# Altium footprint library B6-1-2.PcbLib: 23 footprints (part 1 of 2)
Each footprint in its own frame and in the unit in brackets; x right, y up, seen from the top. Pads: shape width x height; smd on the part's side, far side on the other; paste and mask are expansions set on the pad; w line width, h text height; cw(c..) or ccw(c..) is an arc to the next point about the centre after c.
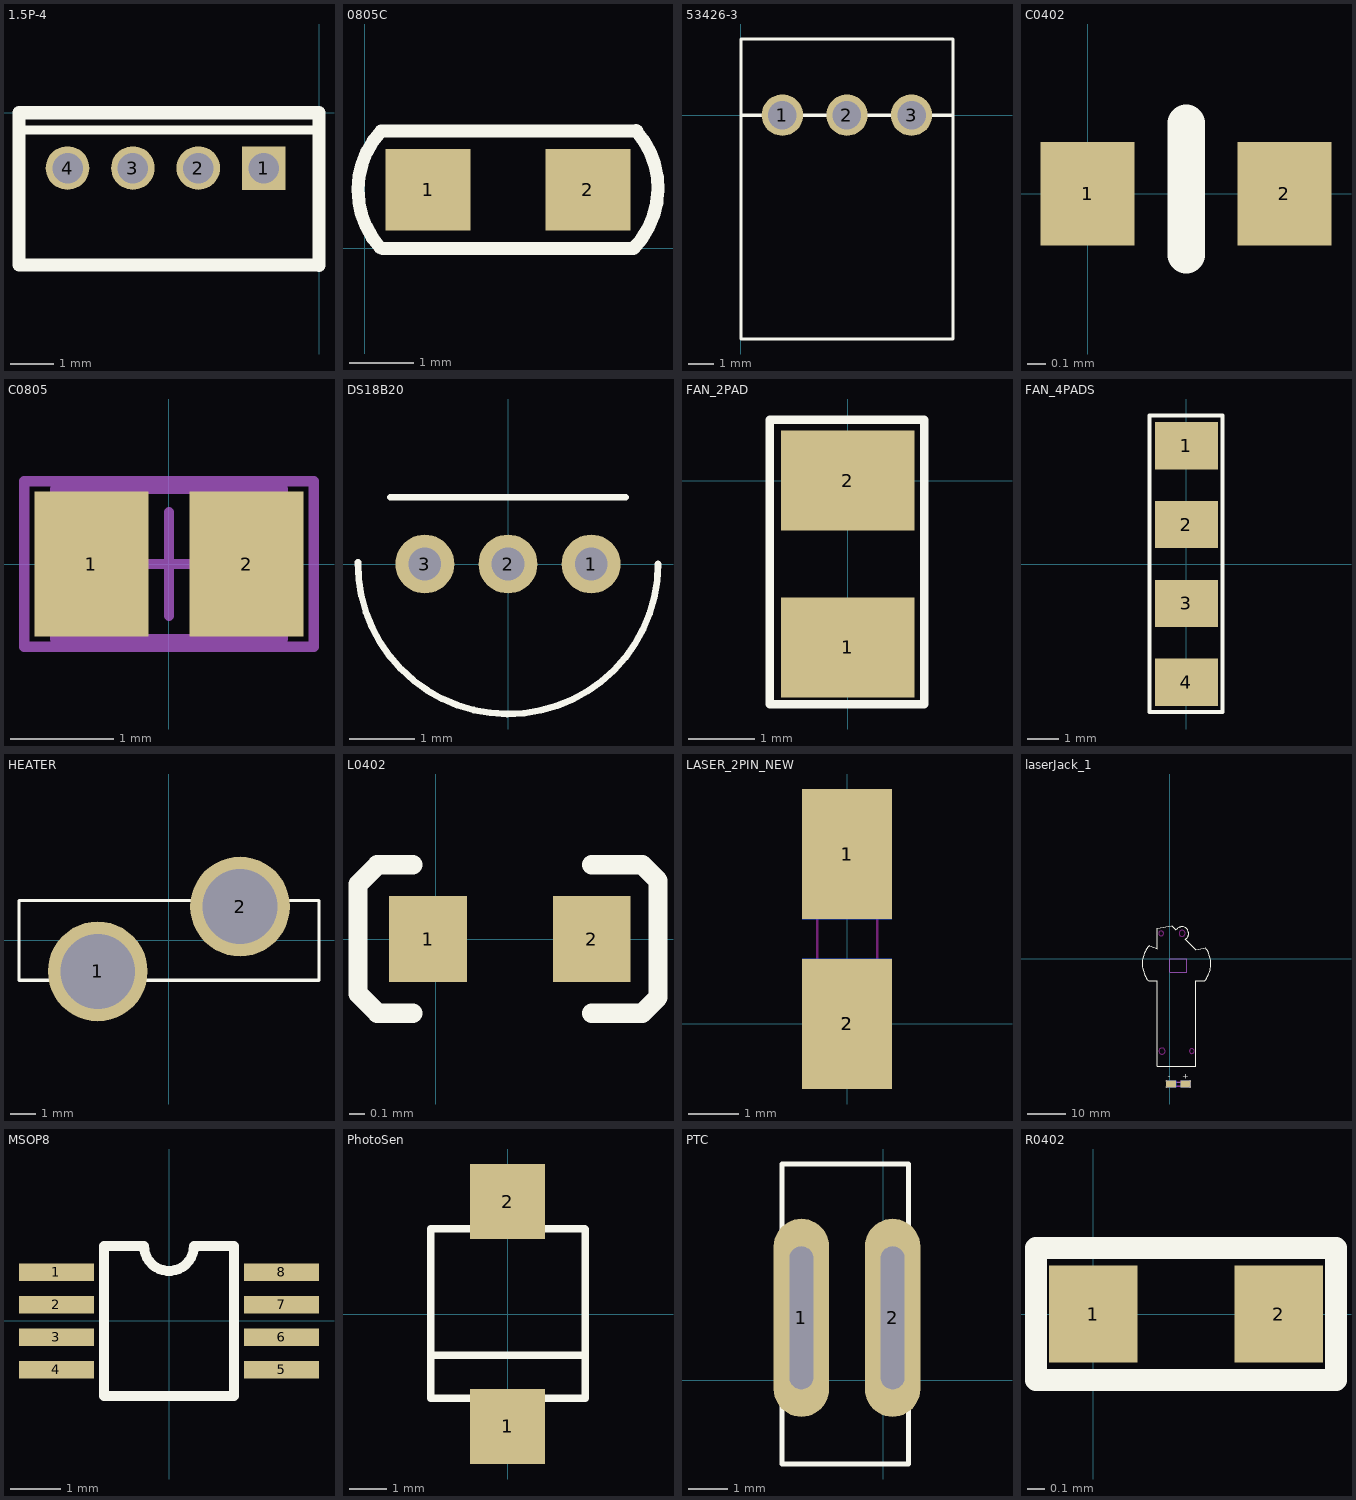
[diagram p0: the footprints below, top view; thin cyan lines are the x and y axes]

## 1.5P-4 [mm]
height 2.54
pads (4):
  rect 1x1 hole 0.7: 1(-1.27,-1.27)
  round 1 hole 0.7: 2(-2.77,-1.27) 3(-4.27,-1.27) 4(-5.77,-1.27)
Top Overlay:
  lines w0.203: -6.807,-0.394 -0.013,-0.394
  lines w0.305: 0,-3.5 0,0 -6.883,0 -6.883,-3.492 0,-3.492

## 0805C [mil]
pads (2):
  rect 52.13x50 smd: 1(39,36) 2(137,36)
Top Overlay:
  lines w8: 9.47,0.63 cw(c49,36) 10.03,71.97 ; 11,0 165,0 ccw(c127,37) 166.53,72.37 ; 11,72 167,72

## 53426-3 [mm]
height 6.7
pads (3):
  round 1.6 hole 1.1: 1(1.6,0) 2(4.1,0) 3(6.6,0)
Top Overlay:
  lines w0.127: 0,0 0,2.946 8.204,2.946 8.204,0 ; 0,0 0,-8.661 8.204,-8.661 8.204,0 ; 0,0 8.204,0

## C0402 [mil] "CAP_NP_C0402"
pads (2):
  rect 20x22 smd: 1(0,0) 2(42,0)
Top Overlay:
  lines w8: 21,-13 21,15

## C0805 [mm] "Chip Capacitor, Body 2.0x1.3mm, IPC High Density"
height 1.4
pads (2):
  rect 1.1x1.4 smd: 1(-0.75,0) 2(0.75,0)
Mechanical 13:
  lines w0.1: -1.1,-0.725 1.1,-0.725 1.1,0.725 -1.1,0.725 -1.1,-0.725
Mechanical 15:
  lines w0.1: -0.5,0 0.5,0 ; 0,-0.5 0,0.5 ; -1.4,-0.8 1.4,-0.8 1.4,0.8 -1.4,0.8 -1.4,-0.8
3D body: height 1.4, standoff 0, extent -1.1,-0.725 1.1,0.725

## DS18B20 [mm]
pads (3):
  round 0.9 hole 0.5: 1(1.27,0) 2(0,0) 3(-1.27,0)
Top Overlay:
  lines w0.1: -2.29,0.025 ccw(c0,0) 2.29,0 ; -1.8,1.02 1.8,1.02

## FAN_2PAD [mm]
height 0.93
pads (2):
  rect 2x1.5 smd: 1(0,-2.5) 2(0,0)
Top Overlay:
  lines w0.127: 1.143,0.889 1.143,-3.353 -1.168,-3.353 -1.168,0.914 1.143,0.914

## FAN_4PADS [mm]
height 0.93
pads (4):
  rect 2x1.5 smd: 1(0,3.75) 2(0,1.25) 3(0,-1.25) 4(0,-3.75)
Top Overlay:
  lines w0.127: -1.168,-4.694 -1.168,4.704 1.143,4.704 1.143,-4.694 -1.168,-4.694

## HEATER [mm]
height 0.93
pads (2):
  round 4 hole 3: 1(-2.845,-1.245) 2(2.855,1.355)
Top Overlay:
  lines w0.127: -6,-1.6 6,-1.6 ; -6,1.6 6,1.6 ; -5.994,-1.6 -5.994,1.6 ; 6.02,-1.6 6.02,1.6

## L0402 [mil]
pads (2):
  rect 20x22 smd: 1(-2,0) 2(40,0)
Top Overlay:
  lines w5: -6,-19 -15,-19 -20,-14 -20,14 -15,19 -6,19 ; 40,-19 53,-19 57,-15 57,15 53,19 40,19

## LASER_2PIN_NEW [mm]
pads (4):
  rect 1.8x2.6 smd far side: 1(0,3.4) 2(0,0)
  rect 1.8x2.6 smd: 1(0,3.4) 2(0,0)
Keep-Out Layer:
  lines w0.05: -0.6,-0.8 -0.6,4.2 0.6,4.2 0.6,-0.8 -0.6,-0.8

## laserJack_1 [mil]
pads (8):
  rect 102.36x70.87 smd far side: 1(163.63,-1283.15) 2(14.02,-1283.15)
  rect 102.36x70.87 smd: 1(163.63,-1283.15) 2(14.02,-1283.15)
  round 20 hole 12: 1(209,-1312) 1(209,-1253.5) 2(-31.5,-1313) 2(-31.5,-1253.5)
Top Overlay:
  lines w5: 265.63,-1103.15 -126.73,-1103.15 -126.73,-226.38 -217.27,-226.38 cw(c-6.17,-49.21) -244.84,88.58 cw(c70.13,-93.26) -211.47,136.89 ccw(c9.84,619.71) -126.73,106.44 -126.73,317.08 18.84,342.75 64.67,296.92 84.29,313.38 cw(c127.31,262.11) 178.58,219.09 162.12,199.47 266.98,94.61 ccw(c167.32,915.89) 369.25,113.6 cw(c70.13,-93.26) 385.09,88.58 cw(c146.42,-49.21) 357.52,-226.38 266.98,-226.38 266.98,-1101.8
  text "+" at 130,-1231.5 h60
  text "-" at -20.5,-1227 h60
Bottom Overlay:
  lines w5: 265.63,-1103.15 266.98,-1101.8
Keep-Out Layer:
  circle w5: c227.61,-945.67 r24.61
  circle w5: c-87.36,261.96 r24.61
  circle w5: c127.31,262.11 r31.5
  circle w5: c-78.51,-945.67 r31.5
  lines w1.97: -9.6,-1306.77 -9.6,-1259.53 187.25,-1259.53 187.25,-1306.77 -9.6,-1306.77
Mechanical 1:
  lines w5: -3.94,-1301.18 -3.94,-1265.75 181.1,-1265.75 181.1,-1301.18 -3.94,-1301.18 ; 0,-137.8 177.17,-137.8 177.17,0 0,0 0,-137.8

## MSOP8 [mm]
pads (8):
  rect 1.5x0.35 smd: 1(-2.25,0.975) 2(-2.25,0.325) 3(-2.25,-0.325) 4(-2.25,-0.975) 5(2.25,-0.975) 6(2.25,-0.325) 7(2.25,0.325) 8(2.25,0.975)
Top Overlay:
  lines w0.2: -1.3,-1.5 -1.3,1.5 -0.5,1.5 ccw(c0,1.5) 0.5,1.5 1.3,1.5 1.3,-1.5 -1.3,-1.5

## PhotoSen [mm]
height 2.54
pads (2):
  rect 2x2 smd: 1(0,-3) 2(0,3)
Top Overlay:
  lines w0.2: -2.045,2.258 -2.045,-2.242 2.055,-2.242 ; -2.045,2.28 2.055,2.28 ; -2.019,-1.099 2.07,-1.099 ; 2.07,-2.242 2.07,2.258

## PTC [mm]
pads (2):
  oval 1.4x5 hole 0.6 slot 3.6 at 90 deg: 1(-2.07,1.58) 2(0.23,1.58)
Top Overlay:
  lines w0.127: -2.565,-2.108 0.635,-2.108 0.635,5.461 -2.565,5.461 -2.565,5.359 -2.565,-2.108
Mechanical 1:
  lines w0.127: -2.3,0 -1.84,0 -1.84,3.16 -2.3,3.16 -2.3,0 ; 0,0 0.46,0 0.46,3.16 0,3.16 0,0

## R0402 [mil] "RESISTOR-R0402"
height 36.61
pads (2):
  rect 20x22 smd: 1(0,0) 2(42,0)
Top Overlay:
  lines w5: -13,-15 55,-15 55,-7.5 55,7.5 55,15 -13,15 -13,-15